# Altium footprint library FCI 06-381-8PIN.PCBLIB: 1 footprints
Each footprint in its own frame and in the unit in brackets; x right, y up, seen from the top. Pads: shape width x height; smd on the part's side, far side on the other; paste and mask are expansions set on the pad; w line width, h text height; cw(c..) or ccw(c..) is an arc to the next point about the centre after c.
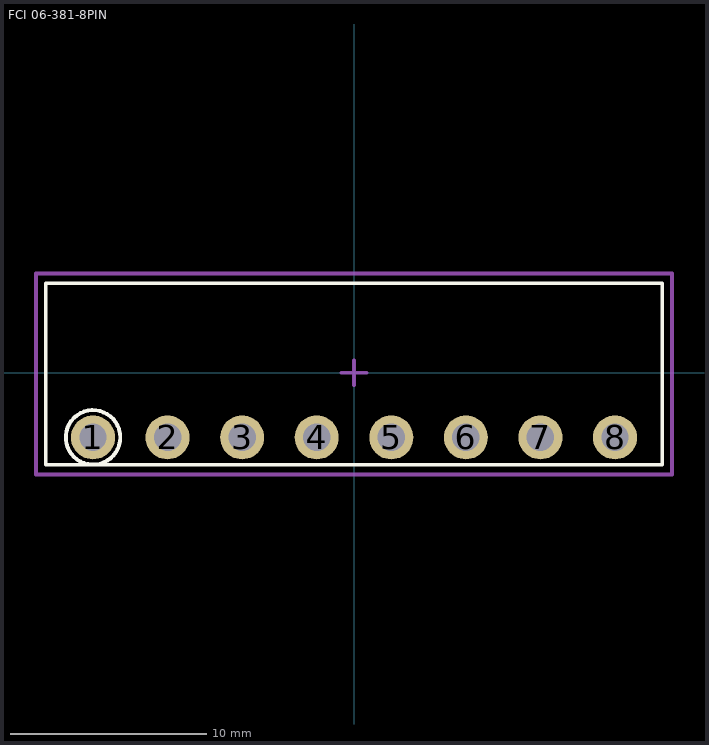
[diagram p0: the footprint, top view; thin cyan lines are the x and y axes]

## FCI 06-381-8PIN [mm] "FCI Pluggable Terminal Block"
height 7
pads (8):
  round 2.25 hole 1.4: 1(-13.335,-3.302) 2(-9.525,-3.302) 3(-5.715,-3.302) 4(-1.905,-3.302) 5(1.905,-3.302) 6(5.715,-3.302) 7(9.525,-3.302) 8(13.335,-3.302)
Top Overlay:
  circle w0.2: c-13.335,-3.302 r1.393
  lines w0.2: -15.748,-4.699 15.748,-4.699 15.748,4.572 -15.748,4.572 -15.748,-4.699
Mechanical 15:
  lines w0.2: -0.635,0 0.635,0 ; 0,-0.635 0,0.635 ; -16.256,-5.207 16.256,-5.207 16.256,5.08 -16.256,5.08 -16.256,-5.207
3D body "FCI 06-381 8Pos.STEP": height 7.6, standoff -3.52, extent -15.835,-4.699 15.835,4.501